# Altium footprint library 691 216 510 0xx.PcbLib: 2 footprints
Each footprint in its own frame and in the unit in brackets; x right, y up, seen from the top. Pads: shape width x height; smd on the part's side, far side on the other; paste and mask are expansions set on the pad; w line width, h text height; cw(c..) or ccw(c..) is an arc to the next point about the centre after c.
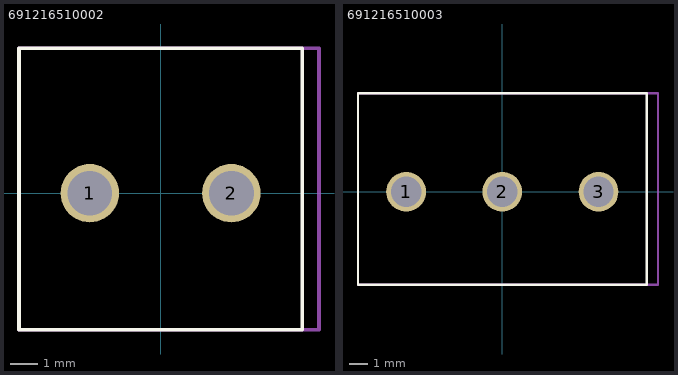
[diagram p0: the footprints below, top view; thin cyan lines are the x and y axes]

## 691216510002 [mm] "5,08mm - Modular - Horizontal wire entry - Rising cage clamp - 02p"
height 13.8
pads (2):
  round 2.1 hole 1.6: 1(-2.54,0) 2(2.54,0)
Top Overlay:
  lines w0.127: -5.08,-4.9 5.08,-4.9 5.08,5.2 -5.08,5.2 -5.08,-4.9
Mechanical 13:
  lines w0.127: -5.08,-4.9 5.68,-4.9 5.68,5.2 -5.08,5.2 -5.08,-4.9
3D body: height 13.81, standoff -3.79, extent -5.08,-4.9 5.68,5.2

## 691216510003 [mm] "5,08mm - Modular - Horizontal wire entry - Rising cage clamp - 03p"
height 13.8
pads (3):
  round 2.1 hole 1.6: 1(-5.08,0) 2(0,0) 3(5.08,0)
Top Overlay:
  lines w0.127: -7.62,-4.9 7.62,-4.9 7.62,5.2 -7.62,5.2 -7.62,-4.9
Mechanical 13:
  lines w0.127: -7.62,-4.9 8.22,-4.9 8.22,5.2 -7.62,5.2 -7.62,-4.9
3D body: height 13.81, standoff -3.79, extent -7.62,-4.9 8.22,5.2